# Altium integrated library TPS61023DRLT (1).IntLib: 1 symbol
Pins are listed as number, name and electrical type; pins without a type are passive.

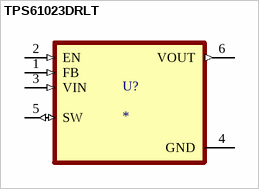
[diagram p0: symbol TPS61023DRLT]

## TPS61023DRLT
designator U?
MP: TPS61023DRLT; MF: {'manufacturer': u'Texas Instruments'}; Value: *; Availability: Unavailable; Package: None; Price: None
footprint SOT50P160X60-6N
pins: 1 FB (in), 2 EN (in), 3 VIN (in), 4 GND (power), 5 SW (io), 6 VOUT (out)